# Altium schematic symbol library Battery100mAh.SchLib: 1 symbol
Pins are listed as number, name and electrical type; pins without a type are passive.

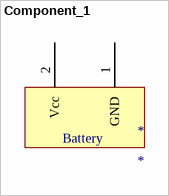
[diagram p0: symbol Component_1]

## Component_1
designator *
footprint Battery100mAh.PcbLib (Footprint not found)
pins: 1 GND, 2 Vcc
text: Battery